# Altium schematic symbol library Multiplexer.SchLib: 2 symbols
Pins are listed as number, name and electrical type; pins without a type are passive.

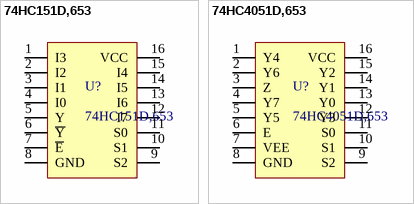
[diagram p0: symbols 74HC151D,653 to 74HC4051D,653]

## 74HC151D,653
designator U?
制造商: Nexperia(安世); 封装: SOIC-16; 类别: 多路复用器; 子类别: 数字多路复用器; 工作电压: 2V~6V; 开关电路: 8:1; 通道数: 1
footprint SOT109-1 (nexperia SOT109-1)
pins: 1 I3, 2 I2, 3 I1, 4 I0, 5 Y, 6 ~{Y}, 7 ~{E}, 8 GND, 9 S2, 10 S1, 11 S0, 12 I7, 13 I6, 14 I5, 15 I4, 16 VCC

## 74HC4051D,653
designator U?
制造商: Nexperia(安世); 封装: SOIC-16; 类别: 多路复用器; 子类别: 模拟多路复用器; 工作电压: 2V~10V; 开关电路: 8:1; 通道数: 1
footprint SOT109-1 (nexperia SOT109-1)
pins: 1 Y4, 2 Y6, 3 Z, 4 Y7, 5 Y5, 6 E, 7 VEE, 8 GND, 9 S2, 10 S1, 11 S0, 12 Y3, 13 Y0, 14 Y1, 15 Y2, 16 VCC